# EAGLE library part TI-CC2640R2L (library FlashPCB_ICs)
CC2640R2L SimpleLinkÃ¢â€žÂ¢ Bluetooth Ã‚Â® 5.1 Low Energy Wireless MCU Technical Specifications: Core Processor: ArmÃ‚Â® CortexÃ‚Â®-M3 Component Search: [DATA SHEET NAME] <[FLASHPCB URL]> Datasheet: CC2640R2L <https://www.ti.com/lit/gpn/cc2640r2l>
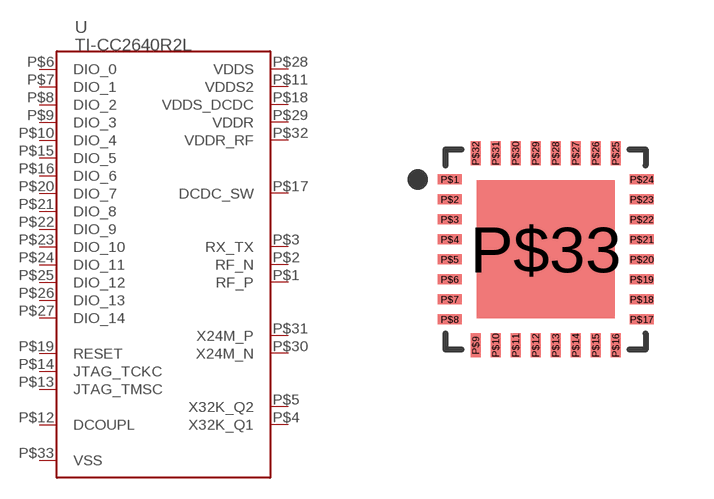
[diagram p85: symbol with the pads of 32-VQFN(5X5)-EXPOSED-PAD; footprint 32-VQFN(5X5)-EXPOSED-PAD]

Designator prefix U

## TI-CC2640R2L  [32-VQFN(5X5)-EXPOSED-PAD]
P$1  RF_P
P$2  RF_N
P$3  RX_TX
P$4  X32K_Q1
P$5  X32K_Q2
P$6  DIO_0
P$7  DIO_1
P$8  DIO_2
P$9  DIO_3
P$10  DIO_4
P$11  VDDS2
P$12  DCOUPL
P$13  JTAG_TMSC
P$14  JTAG_TCKC
P$15  DIO_5
P$16  DIO_6
P$17  DCDC_SW
P$18  VDDS_DCDC
P$19  RESET
P$20  DIO_7
P$21  DIO_8
P$22  DIO_9
P$23  DIO_10
P$24  DIO_11
P$25  DIO_12
P$26  DIO_13
P$27  DIO_14
P$28  VDDS
P$29  VDDR
P$30  X24M_N
P$31  X24M_P
P$32  VDDR_RF
P$33  VSS

## Footprint 32-VQFN(5X5)-EXPOSED-PAD (pad centres in mm)
smd 0.6 x 0.25: P$1 -2.4,1.75; P$2 -2.4,1.25; P$3 -2.4,0.75; P$4 -2.4,0.25; P$5 -2.4,-0.25; P$6 -2.4,-0.75; P$7 -2.4,-1.25; P$8 -2.4,-1.75; P$17 2.4,-1.75; P$18 2.4,-1.25; P$19 2.4,-0.75; P$20 2.4,-0.25; P$21 2.4,0.25; P$22 2.4,0.75; P$23 2.4,1.25; P$24 2.4,1.75
smd 0.25 x 0.6: P$9 -1.75,-2.4; P$10 -1.25,-2.4; P$11 -0.75,-2.4; P$12 -0.25,-2.4; P$13 0.25,-2.4; P$14 0.75,-2.4; P$15 1.25,-2.4; P$16 1.75,-2.4; P$25 1.75,2.4; P$26 1.25,2.4; P$27 0.75,2.4; P$28 0.25,2.4; P$29 -0.25,2.4; P$30 -0.75,2.4; P$31 -1.25,2.4; P$32 -1.75,2.4
smd 3.45 x 3.45: P$33 0,0